# Altium footprint library TSSOP-10.PcbLib: 1 footprints
Each footprint in its own frame and in the unit in brackets; x right, y up, seen from the top. Pads: shape width x height; smd on the part's side, far side on the other; paste and mask are expansions set on the pad; w line width, h text height; cw(c..) or ccw(c..) is an arc to the next point about the centre after c.
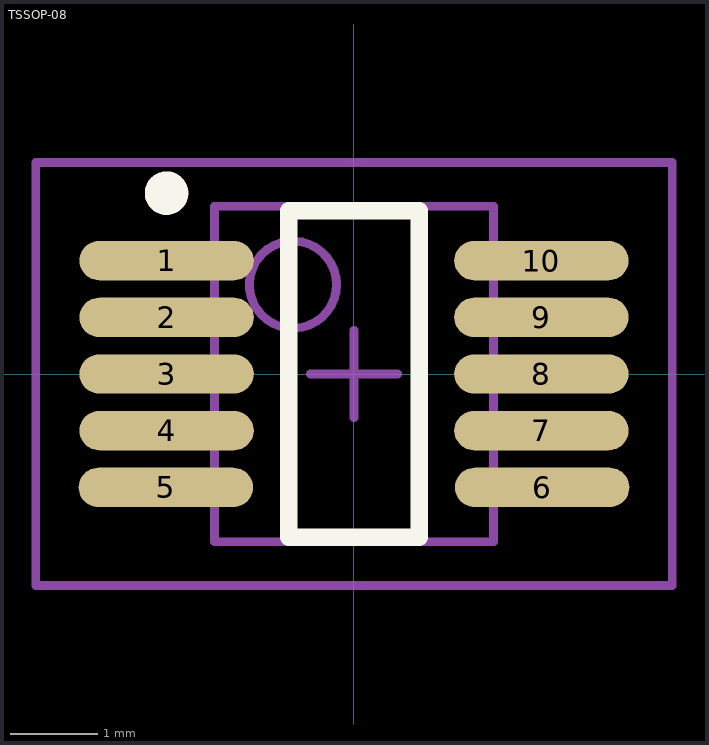
[diagram p0: the footprint, top view; thin cyan lines are the x and y axes]

## TSSOP-08 [mm] "TSOP, 8-Leads, Body 3x3mm, Pitch 0.65mm, IPC Low Density"
height 1.1
pads (10):
  oval 2x0.45 smd: 1(-2.15,1.3) 2(-2.15,0.65) 3(-2.15,0) 4(-2.15,-0.65) 5(-2.159,-1.3) 6(2.159,-1.3) 7(2.15,-0.65) 8(2.15,0) 9(2.15,0.65) 10(2.15,1.3)
Top Overlay:
  circle w0.25: c-2.15,2.075 r0.125
  lines w0.2: -0.75,-1.875 -0.75,1.875 0.75,1.875 0.75,-1.875 -0.75,-1.875
Mechanical 13:
  circle w0.1: c-0.7,1.025 r0.5
  lines w0.1: -1.6,-1.925 -1.6,1.925 1.6,1.925 1.6,-1.925 -1.6,-1.925
Mechanical 15:
  lines w0.1: -0.5,0 0.5,0 ; 0,-0.5 0,0.5 ; -3.65,-2.425 -3.65,2.425 3.65,2.425 3.65,-2.425 -3.65,-2.425
3D body: height 1.1, standoff 0, extent -1.6,-1.925 1.6,1.925